# EAGLE library part CPL-MEM-512KB-EEPROM-SOT23-6 (library TinWhiskers)
EEPROM: 512x8; Package: SOT-23-6; Datasheet: http://ww1.microchip.com/downloads/en/DeviceDoc/21795b.pdf
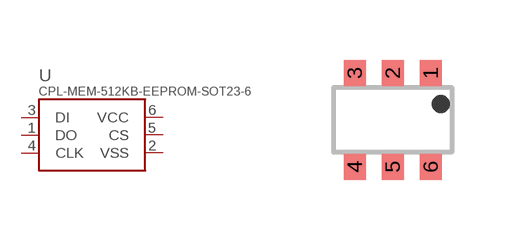
[diagram p27: symbol with the pads of SOT-23-6; footprint SOT-23-6]

Designator prefix U

## CPL-MEM-512KB-EEPROM-SOT23-6  [SOT-23-6]
1  DO
2  VSS
3  DI
4  CLK
5  CS
6  VCC

## Footprint SOT-23-6 (pad centres in mm)
SOT-23 (6-Pin)
smd 0.55 x 0.65: 1 0.95,1.175; 2 0,1.175; 3 -0.95,1.175; 4 -0.95,-1.175; 5 0,-1.175; 6 0.95,-1.175